# Altium integrated library Lattice Semiconductor ispMACH 4000Z.IntLib: 102 symbols (part 1 of 11)
Pins are listed as number, name and electrical type; pins without a type are passive.

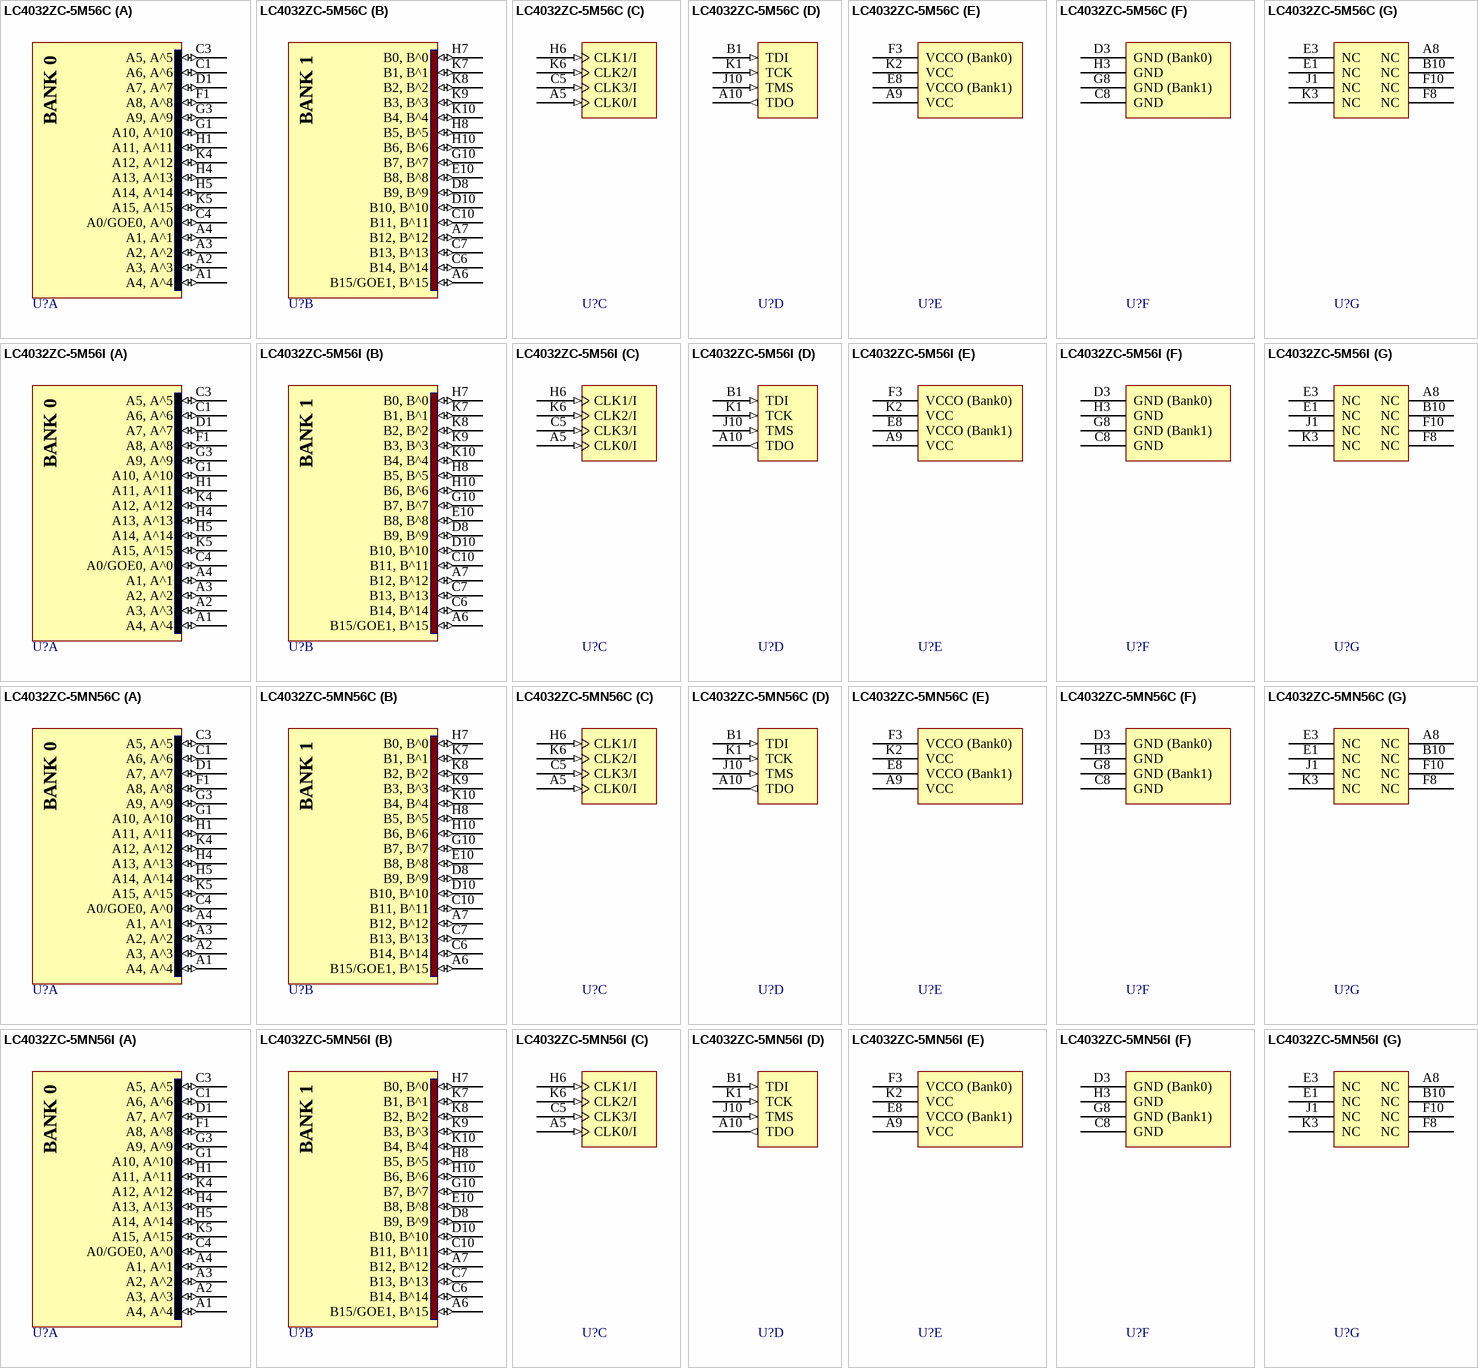
[diagram p0: symbols LC4032ZC-5M56C to LC4032ZC-5MN56I]

## LC4032ZC-5M56C
designator U?
ispMACH 4032 SuperFAST High Density PLD, 1.8 V, 32 User I/Os, 56-Ball caBGA, 5.0 ns, Commercial Grade; Note: For device migration considerations, NC pins K3, J1, F10, F8, E3, E1, B10, A8 are input signal pins in ispMACH 4064Z devices.; DatasheetVersion: ver22.3, Mar-2007; PackageVersion: ver01.2 Feb-2007; PackageReference: csBGA56; PackageDescription: 56-Ball Chip Scale Ball Grid Array (csBGA56); ComponentLink1Description: Manufacturer URL; ComponentLink1URL: http://www.latticesemi.com/; ComponentLink2Description: Datasheet; ComponentLink2URL: http://www.latticesemi.com/dynamic/view_document.cfm?document_id=3646
footprint csBGA56 (BGA, 56-Leads, Body 6x6mm, Pitch 0.5mm)
part A pins: A1 A4, A^4 (io) "General purpose I/O.", A2 A3, A^3 (io) "General purpose I/O.", A3 A2, A^2 (io) "General purpose I/O.", A4 A1, A^1 (io) "General purpose I/O.", C1 A6, A^6 (io) "General purpose I/O.", C3 A5, A^5 (io) "General purpose I/O.", C4 A0/GOE0, A^0 (io) "Either Global Output Enable Input or general I/O.", D1 A7, A^7 (io) "General purpose I/O.", F1 A8, A^8 (io) "General purpose I/O.", G1 A10, A^10 (io) "General purpose I/O.", G3 A9, A^9 (io) "General purpose I/O.", H1 A11, A^11 (io) "General purpose I/O.", H4 A13, A^13 (io) "General purpose I/O.", H5 A14, A^14 (io) "General purpose I/O.", K4 A12, A^12 (io) "General purpose I/O.", K5 A15, A^15 (io) "General purpose I/O."
part B pins: A6 B15/GOE1, B^15 (io) "Either Global Output Enable Input or general I/O.", A7 B12, B^12 (io) "General purpose I/O.", C6 B14, B^14 (io) "General purpose I/O.", C7 B13, B^13 (io) "General purpose I/O.", C10 B11, B^11 (io) "General purpose I/O.", D8 B9, B^9 (io) "General purpose I/O.", D10 B10, B^10 (io) "General purpose I/O.", E10 B8, B^8 (io) "General purpose I/O.", G10 B7, B^7 (io) "General purpose I/O.", H7 B0, B^0 (io) "General purpose I/O.", H8 B5, B^5 (io) "General purpose I/O.", H10 B6, B^6 (io) "General purpose I/O.", K7 B1, B^1 (io) "General purpose I/O.", K8 B2, B^2 (io) "General purpose I/O.", K9 B3, B^3 (io) "General purpose I/O.", K10 B4, B^4 (io) "General purpose I/O."
part C pins: A5 CLK0/I (in) "Either CLK input or input.", C5 CLK3/I (in) "Either CLK input or input.", H6 CLK1/I (in) "Either CLK input or input.", K6 CLK2/I (in) "Either CLK input or input."
part D pins: A10 TDO (out) "Test Data Output. Shifts data out of device using 1149.1.", B1 TDI (in) "Test Data Input. Loads data into device using 1149.1 state machine.", J10 TMS (in) "Test Mode Select Input to control 1149.1 state machine.", K1 TCK (in) "Test Clock Input for 1149.1 state machine."
part E pins: A9 VCC (power) "Power supply for logic core and JTAG port.", E8 VCCO (Bank1) (power) "Power supply pin for I/O bank.", F3 VCCO (Bank0) (power) "Power supply pin for I/O bank.", K2 VCC (power) "Power supply for logic core and JTAG port."
part F pins: C8 GND (power) "Ground", D3 GND (Bank0) (power) "I/O Ground", G8 GND (Bank1) (power) "I/O Ground", H3 GND (power) "Ground"
part G pins: A8 NC "Not Connected.", B10 NC "Not Connected.", E1 NC "Not Connected.", E3 NC "Not Connected.", F8 NC "Not Connected.", F10 NC "Not Connected.", J1 NC "Not Connected.", K3 NC "Not Connected."
part A text: BANK 0
part B text: BANK 1

## LC4032ZC-5M56I
designator U?
ispMACH 4032 SuperFAST High Density PLD, 1.8 V, 32 User I/Os, 56-Ball caBGA, 5.0 ns, Industrial Grade; Note: For device migration considerations, NC pins K3, J1, F10, F8, E3, E1, B10, A8 are input signal pins in ispMACH 4064Z devices.; DatasheetVersion: ver22.3, Mar-2007; PackageVersion: ver01.2 Feb-2007; PackageReference: csBGA56; PackageDescription: 56-Ball Chip Scale Ball Grid Array (csBGA56); ComponentLink1Description: Manufacturer URL; ComponentLink1URL: http://www.latticesemi.com/; ComponentLink2Description: Datasheet; ComponentLink2URL: http://www.latticesemi.com/dynamic/view_document.cfm?document_id=3646
footprint csBGA56 (BGA, 56-Leads, Body 6x6mm, Pitch 0.5mm)
part A pins: A1 A4, A^4 (io) "General purpose I/O.", A2 A3, A^3 (io) "General purpose I/O.", A3 A2, A^2 (io) "General purpose I/O.", A4 A1, A^1 (io) "General purpose I/O.", C1 A6, A^6 (io) "General purpose I/O.", C3 A5, A^5 (io) "General purpose I/O.", C4 A0/GOE0, A^0 (io) "Either Global Output Enable Input or general I/O.", D1 A7, A^7 (io) "General purpose I/O.", F1 A8, A^8 (io) "General purpose I/O.", G1 A10, A^10 (io) "General purpose I/O.", G3 A9, A^9 (io) "General purpose I/O.", H1 A11, A^11 (io) "General purpose I/O.", H4 A13, A^13 (io) "General purpose I/O.", H5 A14, A^14 (io) "General purpose I/O.", K4 A12, A^12 (io) "General purpose I/O.", K5 A15, A^15 (io) "General purpose I/O."
part B pins: A6 B15/GOE1, B^15 (io) "Either Global Output Enable Input or general I/O.", A7 B12, B^12 (io) "General purpose I/O.", C6 B14, B^14 (io) "General purpose I/O.", C7 B13, B^13 (io) "General purpose I/O.", C10 B11, B^11 (io) "General purpose I/O.", D8 B9, B^9 (io) "General purpose I/O.", D10 B10, B^10 (io) "General purpose I/O.", E10 B8, B^8 (io) "General purpose I/O.", G10 B7, B^7 (io) "General purpose I/O.", H7 B0, B^0 (io) "General purpose I/O.", H8 B5, B^5 (io) "General purpose I/O.", H10 B6, B^6 (io) "General purpose I/O.", K7 B1, B^1 (io) "General purpose I/O.", K8 B2, B^2 (io) "General purpose I/O.", K9 B3, B^3 (io) "General purpose I/O.", K10 B4, B^4 (io) "General purpose I/O."
part C pins: A5 CLK0/I (in) "Either CLK input or input.", C5 CLK3/I (in) "Either CLK input or input.", H6 CLK1/I (in) "Either CLK input or input.", K6 CLK2/I (in) "Either CLK input or input."
part D pins: A10 TDO (out) "Test Data Output. Shifts data out of device using 1149.1.", B1 TDI (in) "Test Data Input. Loads data into device using 1149.1 state machine.", J10 TMS (in) "Test Mode Select Input to control 1149.1 state machine.", K1 TCK (in) "Test Clock Input for 1149.1 state machine."
part E pins: A9 VCC (power) "Power supply for logic core and JTAG port.", E8 VCCO (Bank1) (power) "Power supply pin for I/O bank.", F3 VCCO (Bank0) (power) "Power supply pin for I/O bank.", K2 VCC (power) "Power supply for logic core and JTAG port."
part F pins: C8 GND (power) "Ground", D3 GND (Bank0) (power) "I/O Ground", G8 GND (Bank1) (power) "I/O Ground", H3 GND (power) "Ground"
part G pins: A8 NC "Not Connected.", B10 NC "Not Connected.", E1 NC "Not Connected.", E3 NC "Not Connected.", F8 NC "Not Connected.", F10 NC "Not Connected.", J1 NC "Not Connected.", K3 NC "Not Connected."
part A text: BANK 0
part B text: BANK 1

## LC4032ZC-5MN56C
designator U?
ispMACH 4032 SuperFAST High Density PLD, 1.8 V, 32 User I/Os, 56-Ball caBGA, 5.0 ns, Commercial Grade, Pb-Free; Note: For device migration considerations, NC pins K3, J1, F10, F8, E3, E1, B10, A8 are input signal pins in ispMACH 4064Z devices.; DatasheetVersion: ver22.3, Mar-2007; PackageVersion: ver01.2 Feb-2007; PackageReference: csBGA56; PackageDescription: 56-Ball Chip Scale Ball Grid Array (csBGA56); ComponentLink1Description: Manufacturer URL; ComponentLink1URL: http://www.latticesemi.com/; ComponentLink2Description: Datasheet; ComponentLink2URL: http://www.latticesemi.com/dynamic/view_document.cfm?document_id=3646
footprint csBGA56 (BGA, 56-Leads, Body 6x6mm, Pitch 0.5mm)
part A pins: A1 A4, A^4 (io) "General purpose I/O.", A2 A3, A^3 (io) "General purpose I/O.", A3 A2, A^2 (io) "General purpose I/O.", A4 A1, A^1 (io) "General purpose I/O.", C1 A6, A^6 (io) "General purpose I/O.", C3 A5, A^5 (io) "General purpose I/O.", C4 A0/GOE0, A^0 (io) "Either Global Output Enable Input or general I/O.", D1 A7, A^7 (io) "General purpose I/O.", F1 A8, A^8 (io) "General purpose I/O.", G1 A10, A^10 (io) "General purpose I/O.", G3 A9, A^9 (io) "General purpose I/O.", H1 A11, A^11 (io) "General purpose I/O.", H4 A13, A^13 (io) "General purpose I/O.", H5 A14, A^14 (io) "General purpose I/O.", K4 A12, A^12 (io) "General purpose I/O.", K5 A15, A^15 (io) "General purpose I/O."
part B pins: A6 B15/GOE1, B^15 (io) "Either Global Output Enable Input or general I/O.", A7 B12, B^12 (io) "General purpose I/O.", C6 B14, B^14 (io) "General purpose I/O.", C7 B13, B^13 (io) "General purpose I/O.", C10 B11, B^11 (io) "General purpose I/O.", D8 B9, B^9 (io) "General purpose I/O.", D10 B10, B^10 (io) "General purpose I/O.", E10 B8, B^8 (io) "General purpose I/O.", G10 B7, B^7 (io) "General purpose I/O.", H7 B0, B^0 (io) "General purpose I/O.", H8 B5, B^5 (io) "General purpose I/O.", H10 B6, B^6 (io) "General purpose I/O.", K7 B1, B^1 (io) "General purpose I/O.", K8 B2, B^2 (io) "General purpose I/O.", K9 B3, B^3 (io) "General purpose I/O.", K10 B4, B^4 (io) "General purpose I/O."
part C pins: A5 CLK0/I (in) "Either CLK input or input.", C5 CLK3/I (in) "Either CLK input or input.", H6 CLK1/I (in) "Either CLK input or input.", K6 CLK2/I (in) "Either CLK input or input."
part D pins: A10 TDO (out) "Test Data Output. Shifts data out of device using 1149.1.", B1 TDI (in) "Test Data Input. Loads data into device using 1149.1 state machine.", J10 TMS (in) "Test Mode Select Input to control 1149.1 state machine.", K1 TCK (in) "Test Clock Input for 1149.1 state machine."
part E pins: A9 VCC (power) "Power supply for logic core and JTAG port.", E8 VCCO (Bank1) (power) "Power supply pin for I/O bank.", F3 VCCO (Bank0) (power) "Power supply pin for I/O bank.", K2 VCC (power) "Power supply for logic core and JTAG port."
part F pins: C8 GND (power) "Ground", D3 GND (Bank0) (power) "I/O Ground", G8 GND (Bank1) (power) "I/O Ground", H3 GND (power) "Ground"
part G pins: A8 NC "Not Connected.", B10 NC "Not Connected.", E1 NC "Not Connected.", E3 NC "Not Connected.", F8 NC "Not Connected.", F10 NC "Not Connected.", J1 NC "Not Connected.", K3 NC "Not Connected."
part A text: BANK 0
part B text: BANK 1

## LC4032ZC-5MN56I
designator U?
ispMACH 4032 SuperFAST High Density PLD, 1.8 V, 32 User I/Os, 56-Ball caBGA, 5.0 ns, Industrial Grade, Pb-Free; Note: For device migration considerations, NC pins K3, J1, F10, F8, E3, E1, B10, A8 are input signal pins in ispMACH 4064Z devices.; DatasheetVersion: ver22.3, Mar-2007; PackageVersion: ver01.2 Feb-2007; PackageReference: csBGA56; PackageDescription: 56-Ball Chip Scale Ball Grid Array (csBGA56); ComponentLink1Description: Manufacturer URL; ComponentLink1URL: http://www.latticesemi.com/; ComponentLink2Description: Datasheet; ComponentLink2URL: http://www.latticesemi.com/dynamic/view_document.cfm?document_id=3646
footprint csBGA56 (BGA, 56-Leads, Body 6x6mm, Pitch 0.5mm)
part A pins: A1 A4, A^4 (io) "General purpose I/O.", A2 A3, A^3 (io) "General purpose I/O.", A3 A2, A^2 (io) "General purpose I/O.", A4 A1, A^1 (io) "General purpose I/O.", C1 A6, A^6 (io) "General purpose I/O.", C3 A5, A^5 (io) "General purpose I/O.", C4 A0/GOE0, A^0 (io) "Either Global Output Enable Input or general I/O.", D1 A7, A^7 (io) "General purpose I/O.", F1 A8, A^8 (io) "General purpose I/O.", G1 A10, A^10 (io) "General purpose I/O.", G3 A9, A^9 (io) "General purpose I/O.", H1 A11, A^11 (io) "General purpose I/O.", H4 A13, A^13 (io) "General purpose I/O.", H5 A14, A^14 (io) "General purpose I/O.", K4 A12, A^12 (io) "General purpose I/O.", K5 A15, A^15 (io) "General purpose I/O."
part B pins: A6 B15/GOE1, B^15 (io) "Either Global Output Enable Input or general I/O.", A7 B12, B^12 (io) "General purpose I/O.", C6 B14, B^14 (io) "General purpose I/O.", C7 B13, B^13 (io) "General purpose I/O.", C10 B11, B^11 (io) "General purpose I/O.", D8 B9, B^9 (io) "General purpose I/O.", D10 B10, B^10 (io) "General purpose I/O.", E10 B8, B^8 (io) "General purpose I/O.", G10 B7, B^7 (io) "General purpose I/O.", H7 B0, B^0 (io) "General purpose I/O.", H8 B5, B^5 (io) "General purpose I/O.", H10 B6, B^6 (io) "General purpose I/O.", K7 B1, B^1 (io) "General purpose I/O.", K8 B2, B^2 (io) "General purpose I/O.", K9 B3, B^3 (io) "General purpose I/O.", K10 B4, B^4 (io) "General purpose I/O."
part C pins: A5 CLK0/I (in) "Either CLK input or input.", C5 CLK3/I (in) "Either CLK input or input.", H6 CLK1/I (in) "Either CLK input or input.", K6 CLK2/I (in) "Either CLK input or input."
part D pins: A10 TDO (out) "Test Data Output. Shifts data out of device using 1149.1.", B1 TDI (in) "Test Data Input. Loads data into device using 1149.1 state machine.", J10 TMS (in) "Test Mode Select Input to control 1149.1 state machine.", K1 TCK (in) "Test Clock Input for 1149.1 state machine."
part E pins: A9 VCC (power) "Power supply for logic core and JTAG port.", E8 VCCO (Bank1) (power) "Power supply pin for I/O bank.", F3 VCCO (Bank0) (power) "Power supply pin for I/O bank.", K2 VCC (power) "Power supply for logic core and JTAG port."
part F pins: C8 GND (power) "Ground", D3 GND (Bank0) (power) "I/O Ground", G8 GND (Bank1) (power) "I/O Ground", H3 GND (power) "Ground"
part G pins: A8 NC "Not Connected.", B10 NC "Not Connected.", E1 NC "Not Connected.", E3 NC "Not Connected.", F8 NC "Not Connected.", F10 NC "Not Connected.", J1 NC "Not Connected.", K3 NC "Not Connected."
part A text: BANK 0
part B text: BANK 1

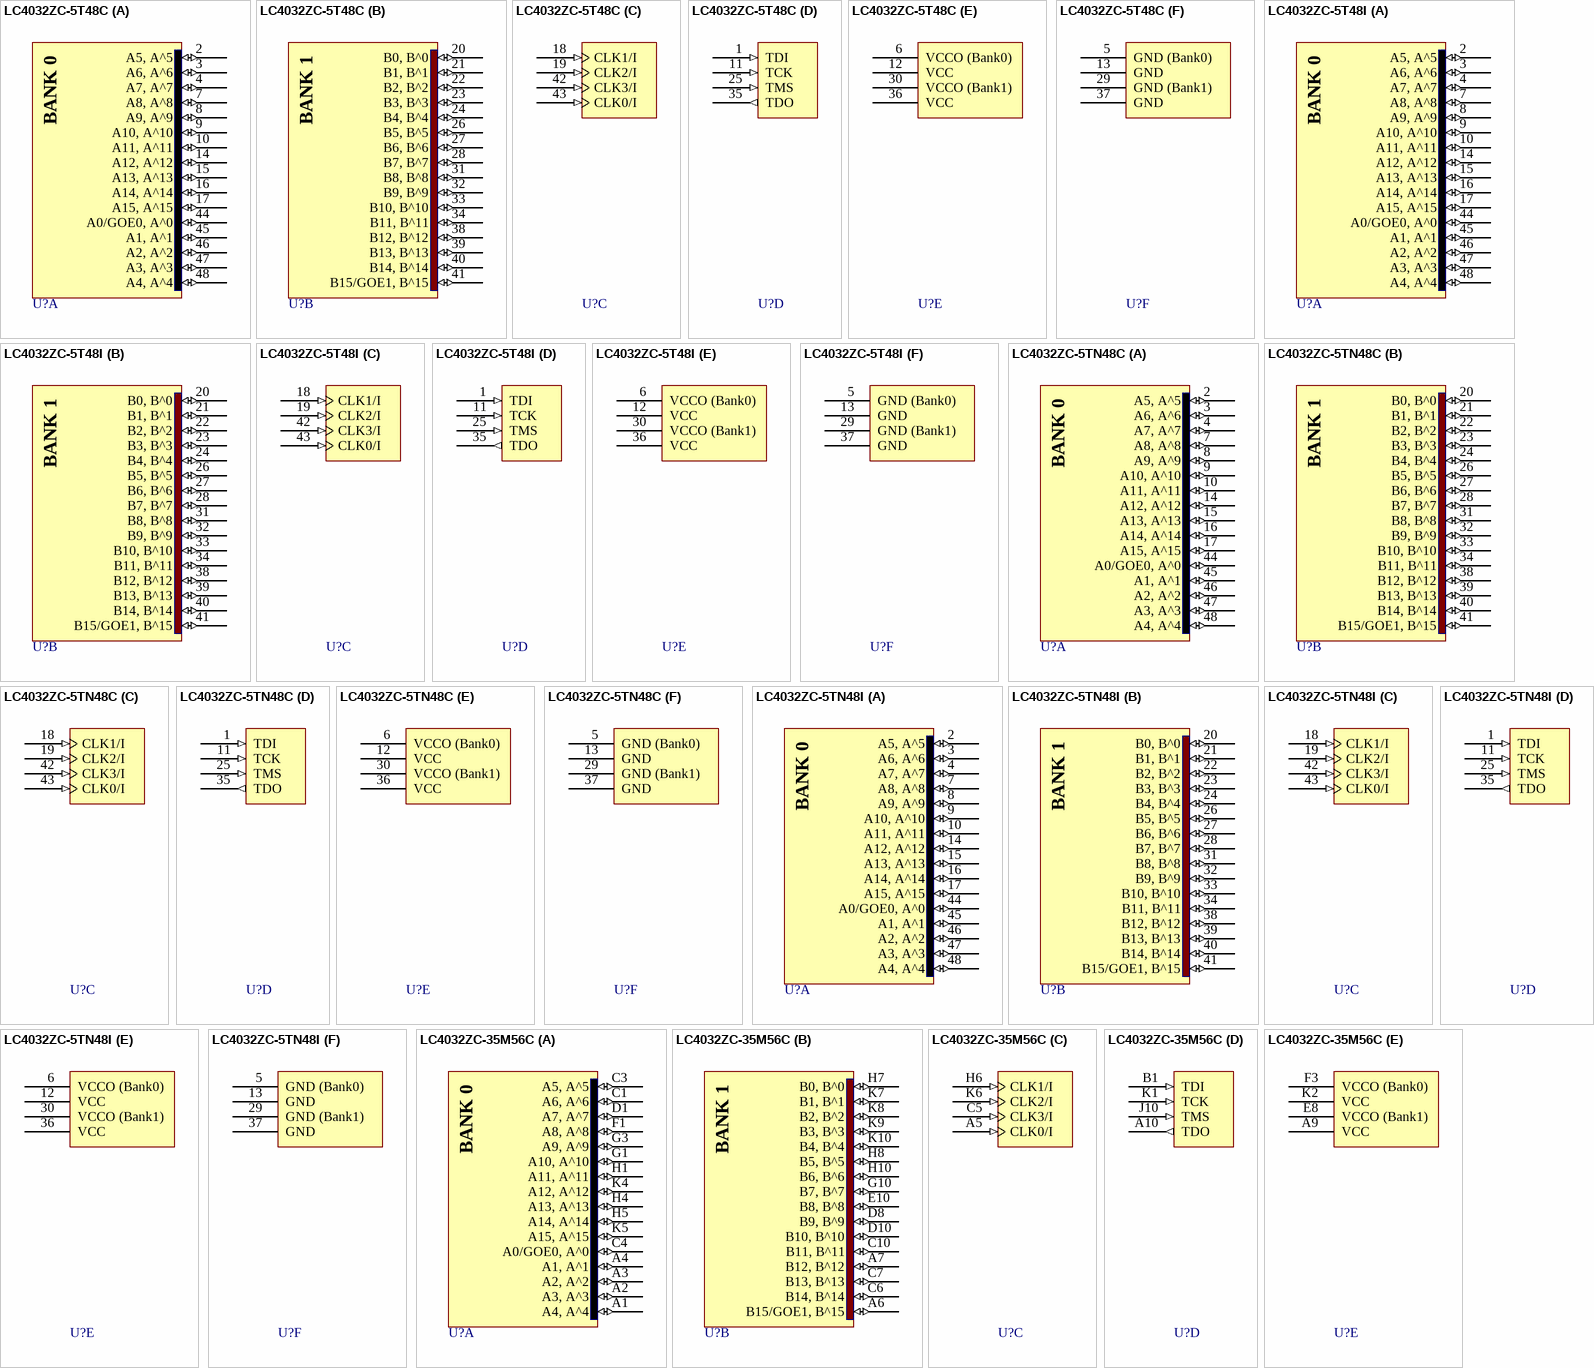
[diagram p1: symbols LC4032ZC-5T48C to LC4032ZC-35M56C]

## LC4032ZC-5T48C
designator U?
ispMACH 4032 SuperFAST High Density PLD, 1.8 V, 32 User I/Os, 48-Pin TQFP, 5.0 ns, Commercial Grade; DatasheetVersion: ver22.3, Mar-2007; PackageVersion: ver02.6, Nov-2010; PackageReference: TQFP48(1mm); PackageDescription: 48-Pin Thin Quad Flat Pack 1.0 mm Thick (TQFP48); ComponentLink1Description: Manufacturer URL; ComponentLink1URL: http://www.latticesemi.com/; ComponentLink2Description: Datasheet; ComponentLink2URL: http://www.latticesemi.com/dynamic/view_document.cfm?document_id=3646
footprint TQFP48(1mm)_N (Thin QFP, 48-Leads, Body 7x7mm, Pitch 0.5mm, IPC Medium Density)
footprint TQFP48(1mm)_L (Thin QFP, 48-Leads, Body 7x7mm, Pitch 0.5mm, IPC High Density)
footprint TQFP48(1mm)_M (Thin QFP, 48-Leads, Body 7x7mm, Pitch 0.5mm, IPC Low Density)
part A pins: 2 A5, A^5 (io) "General purpose I/O.", 3 A6, A^6 (io) "General purpose I/O.", 4 A7, A^7 (io) "General purpose I/O.", 7 A8, A^8 (io) "General purpose I/O.", 8 A9, A^9 (io) "General purpose I/O.", 9 A10, A^10 (io) "General purpose I/O.", 10 A11, A^11 (io) "General purpose I/O.", 14 A12, A^12 (io) "General purpose I/O.", 15 A13, A^13 (io) "General purpose I/O.", 16 A14, A^14 (io) "General purpose I/O.", 17 A15, A^15 (io) "General purpose I/O.", 44 A0/GOE0, A^0 (io) "Either Global Output Enable Input or general I/O.", 45 A1, A^1 (io) "General purpose I/O.", 46 A2, A^2 (io) "General purpose I/O.", 47 A3, A^3 (io) "General purpose I/O.", 48 A4, A^4 (io) "General purpose I/O."
part B pins: 20 B0, B^0 (io) "General purpose I/O.", 21 B1, B^1 (io) "General purpose I/O.", 22 B2, B^2 (io) "General purpose I/O.", 23 B3, B^3 (io) "General purpose I/O.", 24 B4, B^4 (io) "General purpose I/O.", 26 B5, B^5 (io) "General purpose I/O.", 27 B6, B^6 (io) "General purpose I/O.", 28 B7, B^7 (io) "General purpose I/O.", 31 B8, B^8 (io) "General purpose I/O.", 32 B9, B^9 (io) "General purpose I/O.", 33 B10, B^10 (io) "General purpose I/O.", 34 B11, B^11 (io) "General purpose I/O.", 38 B12, B^12 (io) "General purpose I/O.", 39 B13, B^13 (io) "General purpose I/O.", 40 B14, B^14 (io) "General purpose I/O.", 41 B15/GOE1, B^15 (io) "Either Global Output Enable Input or general I/O."
part C pins: 18 CLK1/I (in) "Either CLK input or input.", 19 CLK2/I (in) "Either CLK input or input.", 42 CLK3/I (in) "Either CLK input or input.", 43 CLK0/I (in) "Either CLK input or input."
part D pins: 1 TDI (in) "Test Data Input. Loads data into device using 1149.1 state machine.", 11 TCK (in) "Test Clock Input for 1149.1 state machine.", 25 TMS (in) "Test Mode Select Input to control 1149.1 state machine.", 35 TDO (out) "Test Data Output. Shifts data out of device using 1149.1."
part E pins: 6 VCCO (Bank0) (power) "Power supply pin for I/O bank.", 12 VCC (power) "Power supply for logic core and JTAG port.", 30 VCCO (Bank1) (power) "Power supply pin for I/O bank.", 36 VCC (power) "Power supply for logic core and JTAG port."
part F pins: 5 GND (Bank0) (power) "I/O Ground", 13 GND (power) "Ground", 29 GND (Bank1) (power) "I/O Ground", 37 GND (power) "Ground"
part A text: BANK 0
part B text: BANK 1

## LC4032ZC-5T48I
designator U?
ispMACH 4032 SuperFAST High Density PLD, 1.8 V, 32 User I/Os, 48-Ball TQFP, 5.0 ns, Industrial Grade; DatasheetVersion: ver22.3, Mar-2007; PackageVersion: ver02.6, Nov-2010; PackageReference: TQFP48(1mm); PackageDescription: 48-Pin Thin Quad Flat Pack 1.0 mm Thick (TQFP48); ComponentLink1Description: Manufacturer URL; ComponentLink1URL: http://www.latticesemi.com/; ComponentLink2Description: Datasheet; ComponentLink2URL: http://www.latticesemi.com/dynamic/view_document.cfm?document_id=3646
footprint TQFP48(1mm)_N (Thin QFP, 48-Leads, Body 7x7mm, Pitch 0.5mm, IPC Medium Density)
footprint TQFP48(1mm)_L (Thin QFP, 48-Leads, Body 7x7mm, Pitch 0.5mm, IPC High Density)
footprint TQFP48(1mm)_M (Thin QFP, 48-Leads, Body 7x7mm, Pitch 0.5mm, IPC Low Density)
part A pins: 2 A5, A^5 (io) "General purpose I/O.", 3 A6, A^6 (io) "General purpose I/O.", 4 A7, A^7 (io) "General purpose I/O.", 7 A8, A^8 (io) "General purpose I/O.", 8 A9, A^9 (io) "General purpose I/O.", 9 A10, A^10 (io) "General purpose I/O.", 10 A11, A^11 (io) "General purpose I/O.", 14 A12, A^12 (io) "General purpose I/O.", 15 A13, A^13 (io) "General purpose I/O.", 16 A14, A^14 (io) "General purpose I/O.", 17 A15, A^15 (io) "General purpose I/O.", 44 A0/GOE0, A^0 (io) "Either Global Output Enable Input or general I/O.", 45 A1, A^1 (io) "General purpose I/O.", 46 A2, A^2 (io) "General purpose I/O.", 47 A3, A^3 (io) "General purpose I/O.", 48 A4, A^4 (io) "General purpose I/O."
part B pins: 20 B0, B^0 (io) "General purpose I/O.", 21 B1, B^1 (io) "General purpose I/O.", 22 B2, B^2 (io) "General purpose I/O.", 23 B3, B^3 (io) "General purpose I/O.", 24 B4, B^4 (io) "General purpose I/O.", 26 B5, B^5 (io) "General purpose I/O.", 27 B6, B^6 (io) "General purpose I/O.", 28 B7, B^7 (io) "General purpose I/O.", 31 B8, B^8 (io) "General purpose I/O.", 32 B9, B^9 (io) "General purpose I/O.", 33 B10, B^10 (io) "General purpose I/O.", 34 B11, B^11 (io) "General purpose I/O.", 38 B12, B^12 (io) "General purpose I/O.", 39 B13, B^13 (io) "General purpose I/O.", 40 B14, B^14 (io) "General purpose I/O.", 41 B15/GOE1, B^15 (io) "Either Global Output Enable Input or general I/O."
part C pins: 18 CLK1/I (in) "Either CLK input or input.", 19 CLK2/I (in) "Either CLK input or input.", 42 CLK3/I (in) "Either CLK input or input.", 43 CLK0/I (in) "Either CLK input or input."
part D pins: 1 TDI (in) "Test Data Input. Loads data into device using 1149.1 state machine.", 11 TCK (in) "Test Clock Input for 1149.1 state machine.", 25 TMS (in) "Test Mode Select Input to control 1149.1 state machine.", 35 TDO (out) "Test Data Output. Shifts data out of device using 1149.1."
part E pins: 6 VCCO (Bank0) (power) "Power supply pin for I/O bank.", 12 VCC (power) "Power supply for logic core and JTAG port.", 30 VCCO (Bank1) (power) "Power supply pin for I/O bank.", 36 VCC (power) "Power supply for logic core and JTAG port."
part F pins: 5 GND (Bank0) (power) "I/O Ground", 13 GND (power) "Ground", 29 GND (Bank1) (power) "I/O Ground", 37 GND (power) "Ground"
part A text: BANK 0
part B text: BANK 1

## LC4032ZC-5TN48C
designator U?
ispMACH 4032 SuperFAST High Density PLD, 1.8 V, 32 User I/Os, 48-Pin TQFP, 5.0 ns, Commercial Grade, Pb-Free; DatasheetVersion: ver22.3, Mar-2007; PackageVersion: ver02.6, Nov-2010; PackageReference: TQFP48(1mm); PackageDescription: 48-Pin Thin Quad Flat Pack 1.0 mm Thick (TQFP48); ComponentLink1Description: Manufacturer URL; ComponentLink1URL: http://www.latticesemi.com/; ComponentLink2Description: Datasheet; ComponentLink2URL: http://www.latticesemi.com/dynamic/view_document.cfm?document_id=3646
footprint TQFP48(1mm)_N (Thin QFP, 48-Leads, Body 7x7mm, Pitch 0.5mm, IPC Medium Density)
footprint TQFP48(1mm)_L (Thin QFP, 48-Leads, Body 7x7mm, Pitch 0.5mm, IPC High Density)
footprint TQFP48(1mm)_M (Thin QFP, 48-Leads, Body 7x7mm, Pitch 0.5mm, IPC Low Density)
part A pins: 2 A5, A^5 (io) "General purpose I/O.", 3 A6, A^6 (io) "General purpose I/O.", 4 A7, A^7 (io) "General purpose I/O.", 7 A8, A^8 (io) "General purpose I/O.", 8 A9, A^9 (io) "General purpose I/O.", 9 A10, A^10 (io) "General purpose I/O.", 10 A11, A^11 (io) "General purpose I/O.", 14 A12, A^12 (io) "General purpose I/O.", 15 A13, A^13 (io) "General purpose I/O.", 16 A14, A^14 (io) "General purpose I/O.", 17 A15, A^15 (io) "General purpose I/O.", 44 A0/GOE0, A^0 (io) "Either Global Output Enable Input or general I/O.", 45 A1, A^1 (io) "General purpose I/O.", 46 A2, A^2 (io) "General purpose I/O.", 47 A3, A^3 (io) "General purpose I/O.", 48 A4, A^4 (io) "General purpose I/O."
part B pins: 20 B0, B^0 (io) "General purpose I/O.", 21 B1, B^1 (io) "General purpose I/O.", 22 B2, B^2 (io) "General purpose I/O.", 23 B3, B^3 (io) "General purpose I/O.", 24 B4, B^4 (io) "General purpose I/O.", 26 B5, B^5 (io) "General purpose I/O.", 27 B6, B^6 (io) "General purpose I/O.", 28 B7, B^7 (io) "General purpose I/O.", 31 B8, B^8 (io) "General purpose I/O.", 32 B9, B^9 (io) "General purpose I/O.", 33 B10, B^10 (io) "General purpose I/O.", 34 B11, B^11 (io) "General purpose I/O.", 38 B12, B^12 (io) "General purpose I/O.", 39 B13, B^13 (io) "General purpose I/O.", 40 B14, B^14 (io) "General purpose I/O.", 41 B15/GOE1, B^15 (io) "Either Global Output Enable Input or general I/O."
part C pins: 18 CLK1/I (in) "Either CLK input or input.", 19 CLK2/I (in) "Either CLK input or input.", 42 CLK3/I (in) "Either CLK input or input.", 43 CLK0/I (in) "Either CLK input or input."
part D pins: 1 TDI (in) "Test Data Input. Loads data into device using 1149.1 state machine.", 11 TCK (in) "Test Clock Input for 1149.1 state machine.", 25 TMS (in) "Test Mode Select Input to control 1149.1 state machine.", 35 TDO (out) "Test Data Output. Shifts data out of device using 1149.1."
part E pins: 6 VCCO (Bank0) (power) "Power supply pin for I/O bank.", 12 VCC (power) "Power supply for logic core and JTAG port.", 30 VCCO (Bank1) (power) "Power supply pin for I/O bank.", 36 VCC (power) "Power supply for logic core and JTAG port."
part F pins: 5 GND (Bank0) (power) "I/O Ground", 13 GND (power) "Ground", 29 GND (Bank1) (power) "I/O Ground", 37 GND (power) "Ground"
part A text: BANK 0
part B text: BANK 1

## LC4032ZC-5TN48I
designator U?
ispMACH 4032 SuperFAST High Density PLD, 1.8 V, 32 User I/Os, 48-Ball TQFP, 5.0 ns, Industrial Grade, Pb-Free; DatasheetVersion: ver22.3, Mar-2007; PackageVersion: ver02.6, Nov-2010; PackageReference: TQFP48(1mm); PackageDescription: 48-Pin Thin Quad Flat Pack 1.0 mm Thick (TQFP48); ComponentLink1Description: Manufacturer URL; ComponentLink1URL: http://www.latticesemi.com/; ComponentLink2Description: Datasheet; ComponentLink2URL: http://www.latticesemi.com/dynamic/view_document.cfm?document_id=3646
footprint TQFP48(1mm)_N (Thin QFP, 48-Leads, Body 7x7mm, Pitch 0.5mm, IPC Medium Density)
footprint TQFP48(1mm)_L (Thin QFP, 48-Leads, Body 7x7mm, Pitch 0.5mm, IPC High Density)
footprint TQFP48(1mm)_M (Thin QFP, 48-Leads, Body 7x7mm, Pitch 0.5mm, IPC Low Density)
part A pins: 2 A5, A^5 (io) "General purpose I/O.", 3 A6, A^6 (io) "General purpose I/O.", 4 A7, A^7 (io) "General purpose I/O.", 7 A8, A^8 (io) "General purpose I/O.", 8 A9, A^9 (io) "General purpose I/O.", 9 A10, A^10 (io) "General purpose I/O.", 10 A11, A^11 (io) "General purpose I/O.", 14 A12, A^12 (io) "General purpose I/O.", 15 A13, A^13 (io) "General purpose I/O.", 16 A14, A^14 (io) "General purpose I/O.", 17 A15, A^15 (io) "General purpose I/O.", 44 A0/GOE0, A^0 (io) "Either Global Output Enable Input or general I/O.", 45 A1, A^1 (io) "General purpose I/O.", 46 A2, A^2 (io) "General purpose I/O.", 47 A3, A^3 (io) "General purpose I/O.", 48 A4, A^4 (io) "General purpose I/O."
part B pins: 20 B0, B^0 (io) "General purpose I/O.", 21 B1, B^1 (io) "General purpose I/O.", 22 B2, B^2 (io) "General purpose I/O.", 23 B3, B^3 (io) "General purpose I/O.", 24 B4, B^4 (io) "General purpose I/O.", 26 B5, B^5 (io) "General purpose I/O.", 27 B6, B^6 (io) "General purpose I/O.", 28 B7, B^7 (io) "General purpose I/O.", 31 B8, B^8 (io) "General purpose I/O.", 32 B9, B^9 (io) "General purpose I/O.", 33 B10, B^10 (io) "General purpose I/O.", 34 B11, B^11 (io) "General purpose I/O.", 38 B12, B^12 (io) "General purpose I/O.", 39 B13, B^13 (io) "General purpose I/O.", 40 B14, B^14 (io) "General purpose I/O.", 41 B15/GOE1, B^15 (io) "Either Global Output Enable Input or general I/O."
part C pins: 18 CLK1/I (in) "Either CLK input or input.", 19 CLK2/I (in) "Either CLK input or input.", 42 CLK3/I (in) "Either CLK input or input.", 43 CLK0/I (in) "Either CLK input or input."
part D pins: 1 TDI (in) "Test Data Input. Loads data into device using 1149.1 state machine.", 11 TCK (in) "Test Clock Input for 1149.1 state machine.", 25 TMS (in) "Test Mode Select Input to control 1149.1 state machine.", 35 TDO (out) "Test Data Output. Shifts data out of device using 1149.1."
part E pins: 6 VCCO (Bank0) (power) "Power supply pin for I/O bank.", 12 VCC (power) "Power supply for logic core and JTAG port.", 30 VCCO (Bank1) (power) "Power supply pin for I/O bank.", 36 VCC (power) "Power supply for logic core and JTAG port."
part F pins: 5 GND (Bank0) (power) "I/O Ground", 13 GND (power) "Ground", 29 GND (Bank1) (power) "I/O Ground", 37 GND (power) "Ground"
part A text: BANK 0
part B text: BANK 1

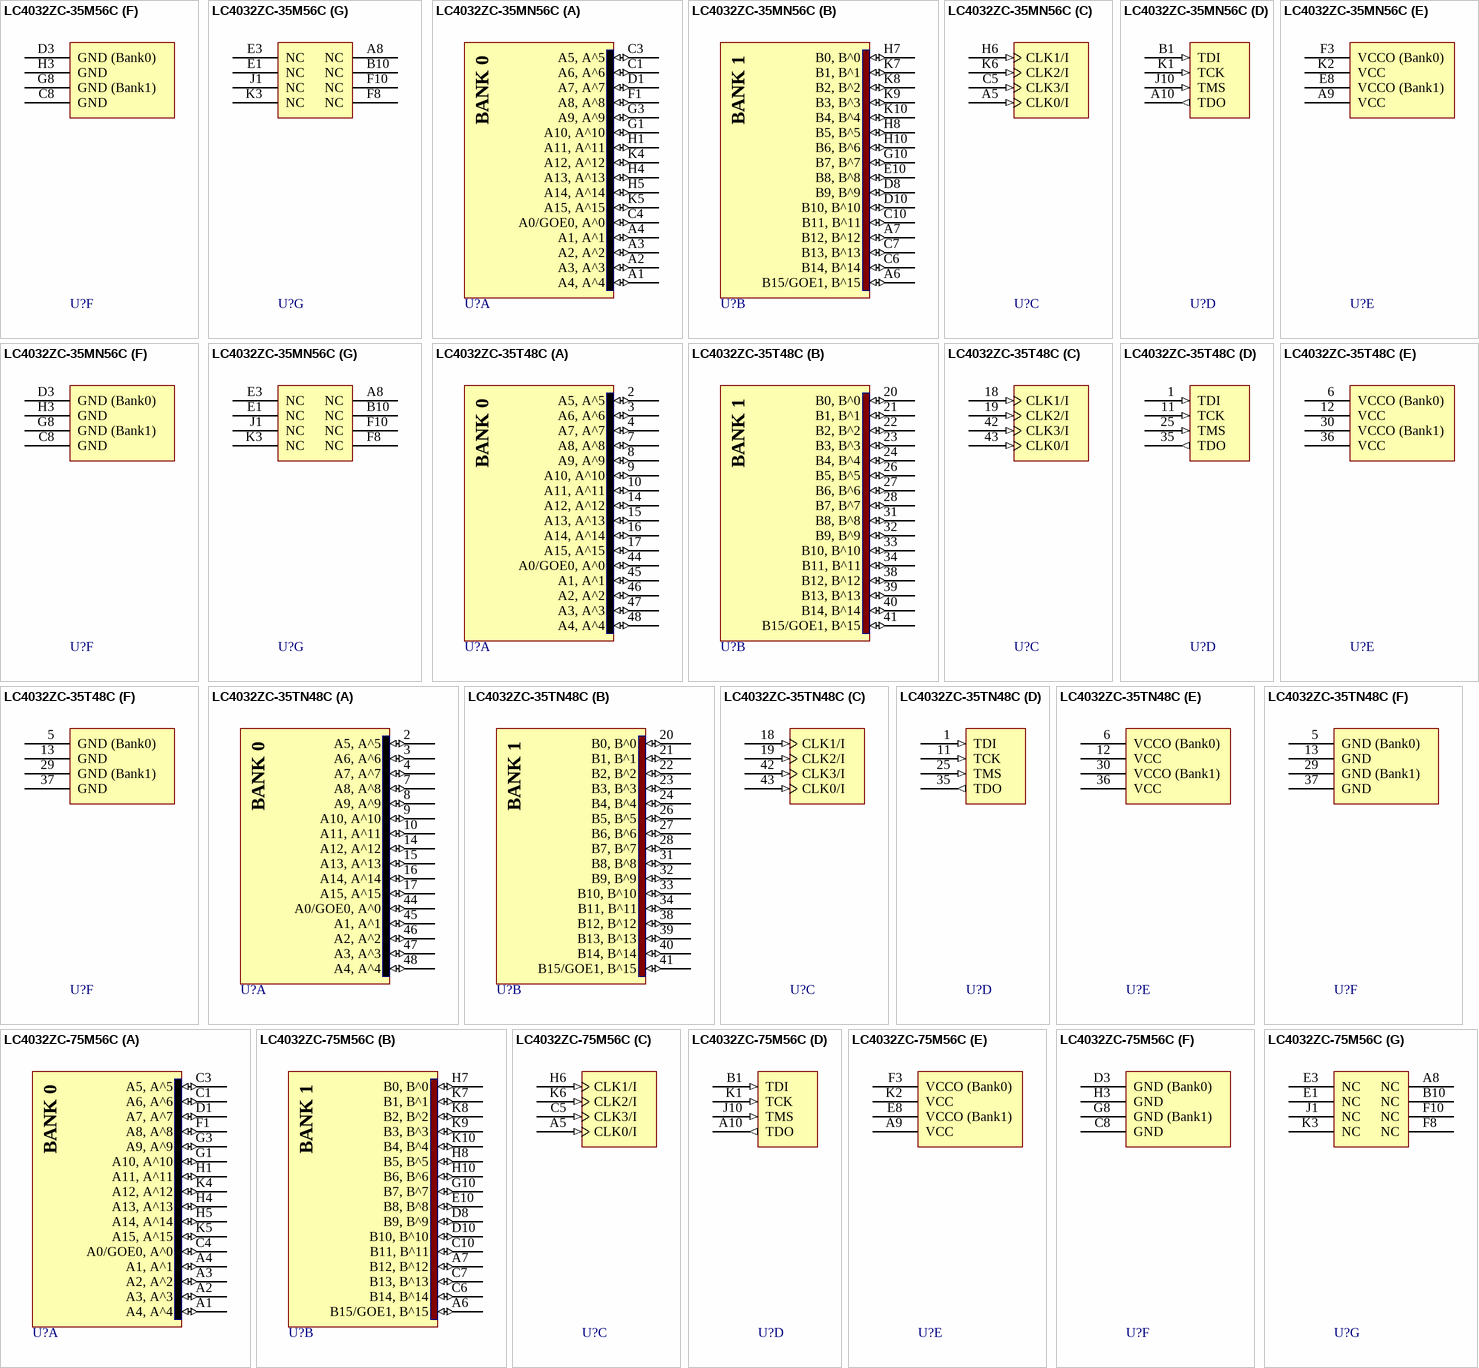
[diagram p2: symbols LC4032ZC-35M56C to LC4032ZC-75M56C]

## LC4032ZC-35M56C
designator U?
ispMACH 4032 SuperFAST High Density PLD, 1.8 V, 32 User I/Os, 56-Ball caBGA, 3.5 ns, Commercial Grade; Note: For device migration considerations, NC pins K3, J1, F10, F8, E3, E1, B10, A8 are input signal pins in ispMACH 4064Z devices.; DatasheetVersion: ver22.3, Mar-2007; PackageVersion: ver01.2 Feb-2007; PackageReference: csBGA56; PackageDescription: 56-Ball Chip Scale Ball Grid Array (csBGA56); ComponentLink1Description: Manufacturer URL; ComponentLink1URL: http://www.latticesemi.com/; ComponentLink2Description: Datasheet; ComponentLink2URL: http://www.latticesemi.com/dynamic/view_document.cfm?document_id=3646
footprint csBGA56 (BGA, 56-Leads, Body 6x6mm, Pitch 0.5mm)
part A pins: A1 A4, A^4 (io) "General purpose I/O.", A2 A3, A^3 (io) "General purpose I/O.", A3 A2, A^2 (io) "General purpose I/O.", A4 A1, A^1 (io) "General purpose I/O.", C1 A6, A^6 (io) "General purpose I/O.", C3 A5, A^5 (io) "General purpose I/O.", C4 A0/GOE0, A^0 (io) "Either Global Output Enable Input or general I/O.", D1 A7, A^7 (io) "General purpose I/O.", F1 A8, A^8 (io) "General purpose I/O.", G1 A10, A^10 (io) "General purpose I/O.", G3 A9, A^9 (io) "General purpose I/O.", H1 A11, A^11 (io) "General purpose I/O.", H4 A13, A^13 (io) "General purpose I/O.", H5 A14, A^14 (io) "General purpose I/O.", K4 A12, A^12 (io) "General purpose I/O.", K5 A15, A^15 (io) "General purpose I/O."
part B pins: A6 B15/GOE1, B^15 (io) "Either Global Output Enable Input or general I/O.", A7 B12, B^12 (io) "General purpose I/O.", C6 B14, B^14 (io) "General purpose I/O.", C7 B13, B^13 (io) "General purpose I/O.", C10 B11, B^11 (io) "General purpose I/O.", D8 B9, B^9 (io) "General purpose I/O.", D10 B10, B^10 (io) "General purpose I/O.", E10 B8, B^8 (io) "General purpose I/O.", G10 B7, B^7 (io) "General purpose I/O.", H7 B0, B^0 (io) "General purpose I/O.", H8 B5, B^5 (io) "General purpose I/O.", H10 B6, B^6 (io) "General purpose I/O.", K7 B1, B^1 (io) "General purpose I/O.", K8 B2, B^2 (io) "General purpose I/O.", K9 B3, B^3 (io) "General purpose I/O.", K10 B4, B^4 (io) "General purpose I/O."
part C pins: A5 CLK0/I (in) "Either CLK input or input.", C5 CLK3/I (in) "Either CLK input or input.", H6 CLK1/I (in) "Either CLK input or input.", K6 CLK2/I (in) "Either CLK input or input."
part D pins: A10 TDO (out) "Test Data Output. Shifts data out of device using 1149.1.", B1 TDI (in) "Test Data Input. Loads data into device using 1149.1 state machine.", J10 TMS (in) "Test Mode Select Input to control 1149.1 state machine.", K1 TCK (in) "Test Clock Input for 1149.1 state machine."
part E pins: A9 VCC (power) "Power supply for logic core and JTAG port.", E8 VCCO (Bank1) (power) "Power supply pin for I/O bank.", F3 VCCO (Bank0) (power) "Power supply pin for I/O bank.", K2 VCC (power) "Power supply for logic core and JTAG port."
part F pins: C8 GND (power) "Ground", D3 GND (Bank0) (power) "I/O Ground", G8 GND (Bank1) (power) "I/O Ground", H3 GND (power) "Ground"
part G pins: A8 NC "Not Connected.", B10 NC "Not Connected.", E1 NC "Not Connected.", E3 NC "Not Connected.", F8 NC "Not Connected.", F10 NC "Not Connected.", J1 NC "Not Connected.", K3 NC "Not Connected."
part A text: BANK 0
part B text: BANK 1

## LC4032ZC-35MN56C
designator U?
ispMACH 4032 SuperFAST High Density PLD, 1.8 V, 32 User I/Os, 56-Ball caBGA, 3.5 ns, Commercial Grade, Pb-Free; Note: For device migration considerations, NC pins K3, J1, F10, F8, E3, E1, B10, A8 are input signal pins in ispMACH 4064Z devices.; DatasheetVersion: ver22.3, Mar-2007; PackageVersion: ver01.2 Feb-2007; PackageReference: csBGA56; PackageDescription: 56-Ball Chip Scale Ball Grid Array (csBGA56); ComponentLink1Description: Manufacturer URL; ComponentLink1URL: http://www.latticesemi.com/; ComponentLink2Description: Datasheet; ComponentLink2URL: http://www.latticesemi.com/dynamic/view_document.cfm?document_id=3646
footprint csBGA56 (BGA, 56-Leads, Body 6x6mm, Pitch 0.5mm)
part A pins: A1 A4, A^4 (io) "General purpose I/O.", A2 A3, A^3 (io) "General purpose I/O.", A3 A2, A^2 (io) "General purpose I/O.", A4 A1, A^1 (io) "General purpose I/O.", C1 A6, A^6 (io) "General purpose I/O.", C3 A5, A^5 (io) "General purpose I/O.", C4 A0/GOE0, A^0 (io) "Either Global Output Enable Input or general I/O.", D1 A7, A^7 (io) "General purpose I/O.", F1 A8, A^8 (io) "General purpose I/O.", G1 A10, A^10 (io) "General purpose I/O.", G3 A9, A^9 (io) "General purpose I/O.", H1 A11, A^11 (io) "General purpose I/O.", H4 A13, A^13 (io) "General purpose I/O.", H5 A14, A^14 (io) "General purpose I/O.", K4 A12, A^12 (io) "General purpose I/O.", K5 A15, A^15 (io) "General purpose I/O."
part B pins: A6 B15/GOE1, B^15 (io) "Either Global Output Enable Input or general I/O.", A7 B12, B^12 (io) "General purpose I/O.", C6 B14, B^14 (io) "General purpose I/O.", C7 B13, B^13 (io) "General purpose I/O.", C10 B11, B^11 (io) "General purpose I/O.", D8 B9, B^9 (io) "General purpose I/O.", D10 B10, B^10 (io) "General purpose I/O.", E10 B8, B^8 (io) "General purpose I/O.", G10 B7, B^7 (io) "General purpose I/O.", H7 B0, B^0 (io) "General purpose I/O.", H8 B5, B^5 (io) "General purpose I/O.", H10 B6, B^6 (io) "General purpose I/O.", K7 B1, B^1 (io) "General purpose I/O.", K8 B2, B^2 (io) "General purpose I/O.", K9 B3, B^3 (io) "General purpose I/O.", K10 B4, B^4 (io) "General purpose I/O."
part C pins: A5 CLK0/I (in) "Either CLK input or input.", C5 CLK3/I (in) "Either CLK input or input.", H6 CLK1/I (in) "Either CLK input or input.", K6 CLK2/I (in) "Either CLK input or input."
part D pins: A10 TDO (out) "Test Data Output. Shifts data out of device using 1149.1.", B1 TDI (in) "Test Data Input. Loads data into device using 1149.1 state machine.", J10 TMS (in) "Test Mode Select Input to control 1149.1 state machine.", K1 TCK (in) "Test Clock Input for 1149.1 state machine."
part E pins: A9 VCC (power) "Power supply for logic core and JTAG port.", E8 VCCO (Bank1) (power) "Power supply pin for I/O bank.", F3 VCCO (Bank0) (power) "Power supply pin for I/O bank.", K2 VCC (power) "Power supply for logic core and JTAG port."
part F pins: C8 GND (power) "Ground", D3 GND (Bank0) (power) "I/O Ground", G8 GND (Bank1) (power) "I/O Ground", H3 GND (power) "Ground"
part G pins: A8 NC "Not Connected.", B10 NC "Not Connected.", E1 NC "Not Connected.", E3 NC "Not Connected.", F8 NC "Not Connected.", F10 NC "Not Connected.", J1 NC "Not Connected.", K3 NC "Not Connected."
part A text: BANK 0
part B text: BANK 1

## LC4032ZC-35T48C
designator U?
ispMACH 4032 SuperFAST High Density PLD, 1.8 V, 32 User I/Os, 48-Pin TQFP, 3.5 ns, Commercial Grade; DatasheetVersion: ver22.3, Mar-2007; PackageVersion: ver02.6, Nov-2010; PackageReference: TQFP48(1mm); PackageDescription: 48-Pin Thin Quad Flat Pack 1.0 mm Thick (TQFP48); ComponentLink1Description: Manufacturer URL; ComponentLink1URL: http://www.latticesemi.com/; ComponentLink2Description: Datasheet; ComponentLink2URL: http://www.latticesemi.com/dynamic/view_document.cfm?document_id=3646
footprint TQFP48(1mm)_N (Thin QFP, 48-Leads, Body 7x7mm, Pitch 0.5mm, IPC Medium Density)
footprint TQFP48(1mm)_L (Thin QFP, 48-Leads, Body 7x7mm, Pitch 0.5mm, IPC High Density)
footprint TQFP48(1mm)_M (Thin QFP, 48-Leads, Body 7x7mm, Pitch 0.5mm, IPC Low Density)
part A pins: 2 A5, A^5 (io) "General purpose I/O.", 3 A6, A^6 (io) "General purpose I/O.", 4 A7, A^7 (io) "General purpose I/O.", 7 A8, A^8 (io) "General purpose I/O.", 8 A9, A^9 (io) "General purpose I/O.", 9 A10, A^10 (io) "General purpose I/O.", 10 A11, A^11 (io) "General purpose I/O.", 14 A12, A^12 (io) "General purpose I/O.", 15 A13, A^13 (io) "General purpose I/O.", 16 A14, A^14 (io) "General purpose I/O.", 17 A15, A^15 (io) "General purpose I/O.", 44 A0/GOE0, A^0 (io) "Either Global Output Enable Input or general I/O.", 45 A1, A^1 (io) "General purpose I/O.", 46 A2, A^2 (io) "General purpose I/O.", 47 A3, A^3 (io) "General purpose I/O.", 48 A4, A^4 (io) "General purpose I/O."
part B pins: 20 B0, B^0 (io) "General purpose I/O.", 21 B1, B^1 (io) "General purpose I/O.", 22 B2, B^2 (io) "General purpose I/O.", 23 B3, B^3 (io) "General purpose I/O.", 24 B4, B^4 (io) "General purpose I/O.", 26 B5, B^5 (io) "General purpose I/O.", 27 B6, B^6 (io) "General purpose I/O.", 28 B7, B^7 (io) "General purpose I/O.", 31 B8, B^8 (io) "General purpose I/O.", 32 B9, B^9 (io) "General purpose I/O.", 33 B10, B^10 (io) "General purpose I/O.", 34 B11, B^11 (io) "General purpose I/O.", 38 B12, B^12 (io) "General purpose I/O.", 39 B13, B^13 (io) "General purpose I/O.", 40 B14, B^14 (io) "General purpose I/O.", 41 B15/GOE1, B^15 (io) "Either Global Output Enable Input or general I/O."
part C pins: 18 CLK1/I (in) "Either CLK input or input.", 19 CLK2/I (in) "Either CLK input or input.", 42 CLK3/I (in) "Either CLK input or input.", 43 CLK0/I (in) "Either CLK input or input."
part D pins: 1 TDI (in) "Test Data Input. Loads data into device using 1149.1 state machine.", 11 TCK (in) "Test Clock Input for 1149.1 state machine.", 25 TMS (in) "Test Mode Select Input to control 1149.1 state machine.", 35 TDO (out) "Test Data Output. Shifts data out of device using 1149.1."
part E pins: 6 VCCO (Bank0) (power) "Power supply pin for I/O bank.", 12 VCC (power) "Power supply for logic core and JTAG port.", 30 VCCO (Bank1) (power) "Power supply pin for I/O bank.", 36 VCC (power) "Power supply for logic core and JTAG port."
part F pins: 5 GND (Bank0) (power) "I/O Ground", 13 GND (power) "Ground", 29 GND (Bank1) (power) "I/O Ground", 37 GND (power) "Ground"
part A text: BANK 0
part B text: BANK 1

## LC4032ZC-35TN48C
designator U?
ispMACH 4032 SuperFAST High Density PLD, 1.8 V, 32 User I/Os, 48-Pin TQFP, 3.5 ns, Commercial Grade, Pb-Free; DatasheetVersion: ver22.3, Mar-2007; PackageVersion: ver02.6, Nov-2010; PackageReference: TQFP48(1mm); PackageDescription: 48-Pin Thin Quad Flat Pack 1.0 mm Thick (TQFP48); ComponentLink1Description: Manufacturer URL; ComponentLink1URL: http://www.latticesemi.com/; ComponentLink2Description: Datasheet; ComponentLink2URL: http://www.latticesemi.com/dynamic/view_document.cfm?document_id=3646
footprint TQFP48(1mm)_N (Thin QFP, 48-Leads, Body 7x7mm, Pitch 0.5mm, IPC Medium Density)
footprint TQFP48(1mm)_L (Thin QFP, 48-Leads, Body 7x7mm, Pitch 0.5mm, IPC High Density)
footprint TQFP48(1mm)_M (Thin QFP, 48-Leads, Body 7x7mm, Pitch 0.5mm, IPC Low Density)
part A pins: 2 A5, A^5 (io) "General purpose I/O.", 3 A6, A^6 (io) "General purpose I/O.", 4 A7, A^7 (io) "General purpose I/O.", 7 A8, A^8 (io) "General purpose I/O.", 8 A9, A^9 (io) "General purpose I/O.", 9 A10, A^10 (io) "General purpose I/O.", 10 A11, A^11 (io) "General purpose I/O.", 14 A12, A^12 (io) "General purpose I/O.", 15 A13, A^13 (io) "General purpose I/O.", 16 A14, A^14 (io) "General purpose I/O.", 17 A15, A^15 (io) "General purpose I/O.", 44 A0/GOE0, A^0 (io) "Either Global Output Enable Input or general I/O.", 45 A1, A^1 (io) "General purpose I/O.", 46 A2, A^2 (io) "General purpose I/O.", 47 A3, A^3 (io) "General purpose I/O.", 48 A4, A^4 (io) "General purpose I/O."
part B pins: 20 B0, B^0 (io) "General purpose I/O.", 21 B1, B^1 (io) "General purpose I/O.", 22 B2, B^2 (io) "General purpose I/O.", 23 B3, B^3 (io) "General purpose I/O.", 24 B4, B^4 (io) "General purpose I/O.", 26 B5, B^5 (io) "General purpose I/O.", 27 B6, B^6 (io) "General purpose I/O.", 28 B7, B^7 (io) "General purpose I/O.", 31 B8, B^8 (io) "General purpose I/O.", 32 B9, B^9 (io) "General purpose I/O.", 33 B10, B^10 (io) "General purpose I/O.", 34 B11, B^11 (io) "General purpose I/O.", 38 B12, B^12 (io) "General purpose I/O.", 39 B13, B^13 (io) "General purpose I/O.", 40 B14, B^14 (io) "General purpose I/O.", 41 B15/GOE1, B^15 (io) "Either Global Output Enable Input or general I/O."
part C pins: 18 CLK1/I (in) "Either CLK input or input.", 19 CLK2/I (in) "Either CLK input or input.", 42 CLK3/I (in) "Either CLK input or input.", 43 CLK0/I (in) "Either CLK input or input."
part D pins: 1 TDI (in) "Test Data Input. Loads data into device using 1149.1 state machine.", 11 TCK (in) "Test Clock Input for 1149.1 state machine.", 25 TMS (in) "Test Mode Select Input to control 1149.1 state machine.", 35 TDO (out) "Test Data Output. Shifts data out of device using 1149.1."
part E pins: 6 VCCO (Bank0) (power) "Power supply pin for I/O bank.", 12 VCC (power) "Power supply for logic core and JTAG port.", 30 VCCO (Bank1) (power) "Power supply pin for I/O bank.", 36 VCC (power) "Power supply for logic core and JTAG port."
part F pins: 5 GND (Bank0) (power) "I/O Ground", 13 GND (power) "Ground", 29 GND (Bank1) (power) "I/O Ground", 37 GND (power) "Ground"
part A text: BANK 0
part B text: BANK 1

## LC4032ZC-75M56C
designator U?
ispMACH 4032 SuperFAST High Density PLD, 1.8 V, 32 User I/Os, 56-Ball caBGA, 7.5 ns, Commercial Grade; Note: For device migration considerations, NC pins K3, J1, F10, F8, E3, E1, B10, A8 are input signal pins in ispMACH 4064Z devices.; DatasheetVersion: ver22.3, Mar-2007; PackageVersion: ver01.2 Feb-2007; PackageReference: csBGA56; PackageDescription: 56-Ball Chip Scale Ball Grid Array (csBGA56); ComponentLink1Description: Manufacturer URL; ComponentLink1URL: http://www.latticesemi.com/; ComponentLink2Description: Datasheet; ComponentLink2URL: http://www.latticesemi.com/dynamic/view_document.cfm?document_id=3646
footprint csBGA56 (BGA, 56-Leads, Body 6x6mm, Pitch 0.5mm)
part A pins: A1 A4, A^4 (io) "General purpose I/O.", A2 A3, A^3 (io) "General purpose I/O.", A3 A2, A^2 (io) "General purpose I/O.", A4 A1, A^1 (io) "General purpose I/O.", C1 A6, A^6 (io) "General purpose I/O.", C3 A5, A^5 (io) "General purpose I/O.", C4 A0/GOE0, A^0 (io) "Either Global Output Enable Input or general I/O.", D1 A7, A^7 (io) "General purpose I/O.", F1 A8, A^8 (io) "General purpose I/O.", G1 A10, A^10 (io) "General purpose I/O.", G3 A9, A^9 (io) "General purpose I/O.", H1 A11, A^11 (io) "General purpose I/O.", H4 A13, A^13 (io) "General purpose I/O.", H5 A14, A^14 (io) "General purpose I/O.", K4 A12, A^12 (io) "General purpose I/O.", K5 A15, A^15 (io) "General purpose I/O."
part B pins: A6 B15/GOE1, B^15 (io) "Either Global Output Enable Input or general I/O.", A7 B12, B^12 (io) "General purpose I/O.", C6 B14, B^14 (io) "General purpose I/O.", C7 B13, B^13 (io) "General purpose I/O.", C10 B11, B^11 (io) "General purpose I/O.", D8 B9, B^9 (io) "General purpose I/O.", D10 B10, B^10 (io) "General purpose I/O.", E10 B8, B^8 (io) "General purpose I/O.", G10 B7, B^7 (io) "General purpose I/O.", H7 B0, B^0 (io) "General purpose I/O.", H8 B5, B^5 (io) "General purpose I/O.", H10 B6, B^6 (io) "General purpose I/O.", K7 B1, B^1 (io) "General purpose I/O.", K8 B2, B^2 (io) "General purpose I/O.", K9 B3, B^3 (io) "General purpose I/O.", K10 B4, B^4 (io) "General purpose I/O."
part C pins: A5 CLK0/I (in) "Either CLK input or input.", C5 CLK3/I (in) "Either CLK input or input.", H6 CLK1/I (in) "Either CLK input or input.", K6 CLK2/I (in) "Either CLK input or input."
part D pins: A10 TDO (out) "Test Data Output. Shifts data out of device using 1149.1.", B1 TDI (in) "Test Data Input. Loads data into device using 1149.1 state machine.", J10 TMS (in) "Test Mode Select Input to control 1149.1 state machine.", K1 TCK (in) "Test Clock Input for 1149.1 state machine."
part E pins: A9 VCC (power) "Power supply for logic core and JTAG port.", E8 VCCO (Bank1) (power) "Power supply pin for I/O bank.", F3 VCCO (Bank0) (power) "Power supply pin for I/O bank.", K2 VCC (power) "Power supply for logic core and JTAG port."
part F pins: C8 GND (power) "Ground", D3 GND (Bank0) (power) "I/O Ground", G8 GND (Bank1) (power) "I/O Ground", H3 GND (power) "Ground"
part G pins: A8 NC "Not Connected.", B10 NC "Not Connected.", E1 NC "Not Connected.", E3 NC "Not Connected.", F8 NC "Not Connected.", F10 NC "Not Connected.", J1 NC "Not Connected.", K3 NC "Not Connected."
part A text: BANK 0
part B text: BANK 1

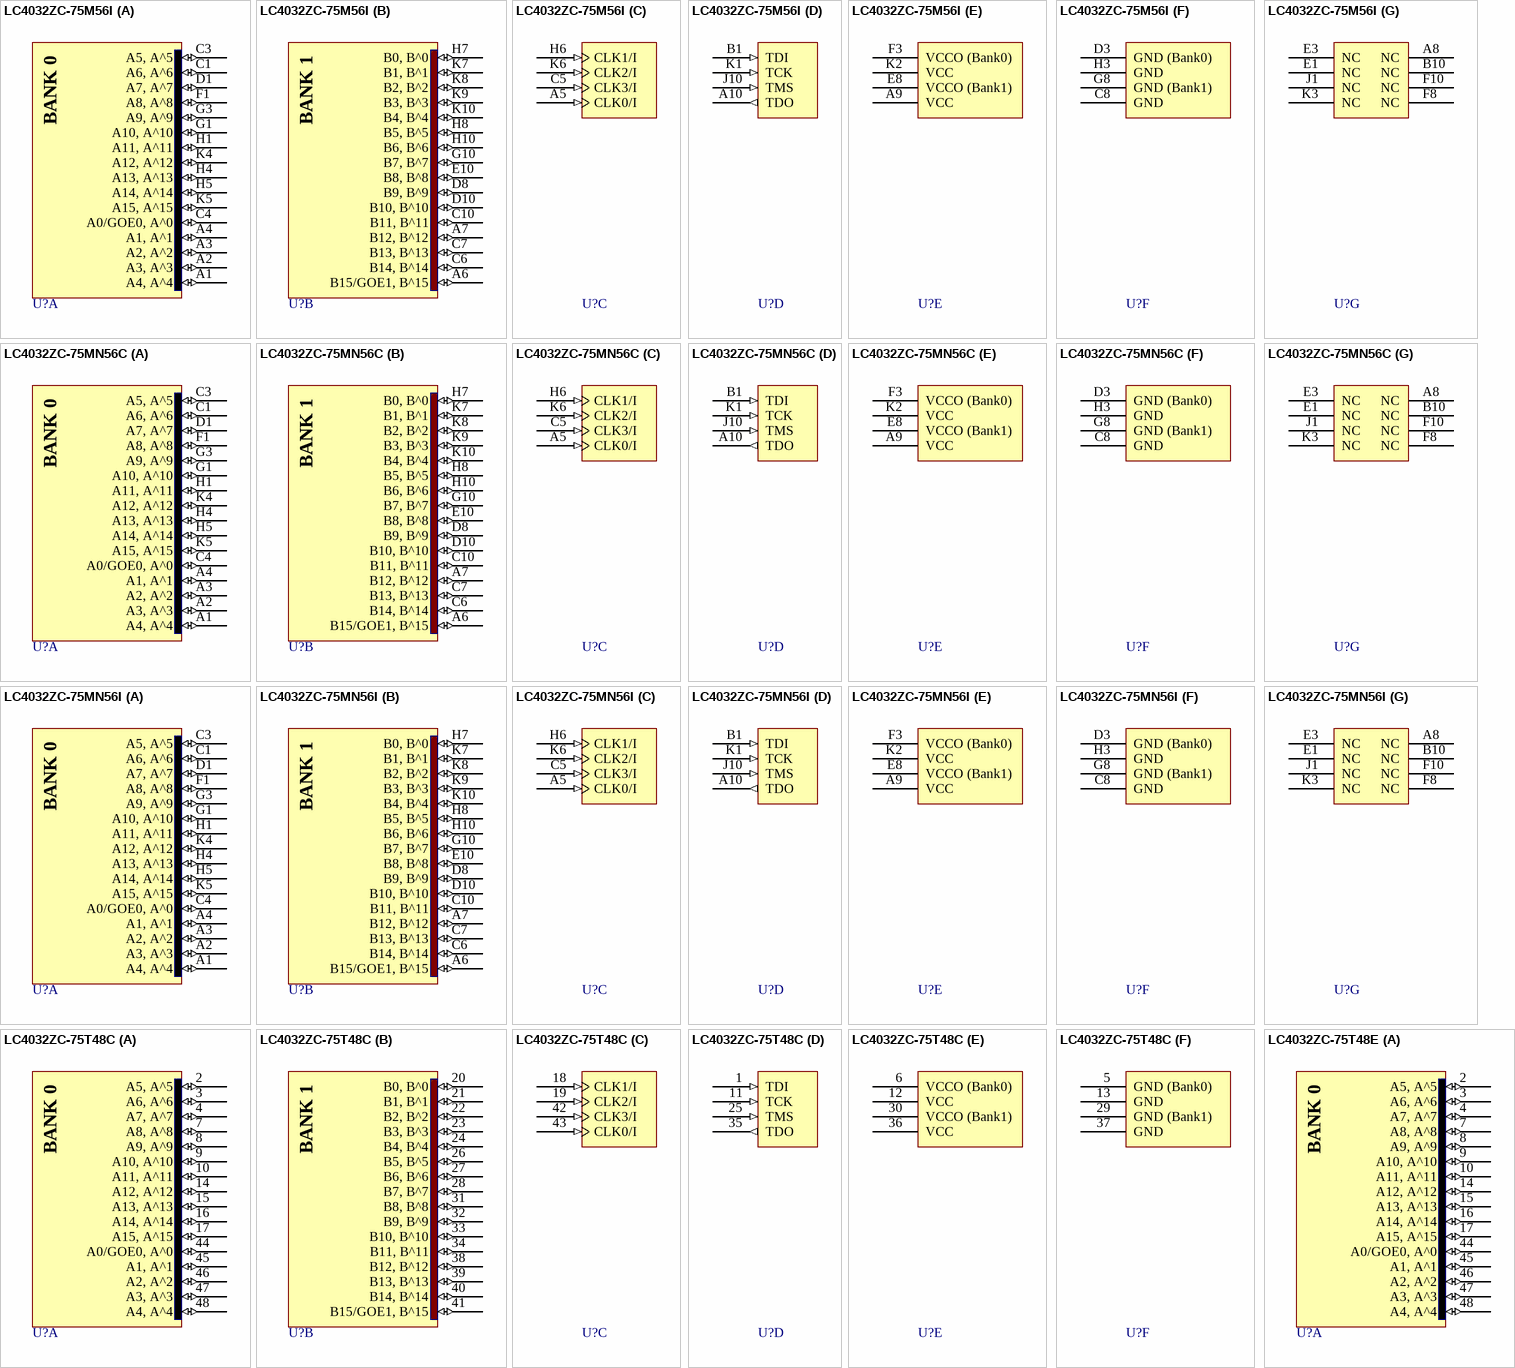
[diagram p3: symbols LC4032ZC-75M56I to LC4032ZC-75T48E]

## LC4032ZC-75M56I
designator U?
ispMACH 4032 SuperFAST High Density PLD, 1.8 V, 32 User I/Os, 56-Ball caBGA, 7.5 ns, Industrial Grade; Note: For device migration considerations, NC pins K3, J1, F10, F8, E3, E1, B10, A8 are input signal pins in ispMACH 4064Z devices.; DatasheetVersion: ver22.3, Mar-2007; PackageVersion: ver01.2 Feb-2007; PackageReference: csBGA56; PackageDescription: 56-Ball Chip Scale Ball Grid Array (csBGA56); ComponentLink1Description: Manufacturer URL; ComponentLink1URL: http://www.latticesemi.com/; ComponentLink2Description: Datasheet; ComponentLink2URL: http://www.latticesemi.com/dynamic/view_document.cfm?document_id=3646
footprint csBGA56 (BGA, 56-Leads, Body 6x6mm, Pitch 0.5mm)
part A pins: A1 A4, A^4 (io) "General purpose I/O.", A2 A3, A^3 (io) "General purpose I/O.", A3 A2, A^2 (io) "General purpose I/O.", A4 A1, A^1 (io) "General purpose I/O.", C1 A6, A^6 (io) "General purpose I/O.", C3 A5, A^5 (io) "General purpose I/O.", C4 A0/GOE0, A^0 (io) "Either Global Output Enable Input or general I/O.", D1 A7, A^7 (io) "General purpose I/O.", F1 A8, A^8 (io) "General purpose I/O.", G1 A10, A^10 (io) "General purpose I/O.", G3 A9, A^9 (io) "General purpose I/O.", H1 A11, A^11 (io) "General purpose I/O.", H4 A13, A^13 (io) "General purpose I/O.", H5 A14, A^14 (io) "General purpose I/O.", K4 A12, A^12 (io) "General purpose I/O.", K5 A15, A^15 (io) "General purpose I/O."
part B pins: A6 B15/GOE1, B^15 (io) "Either Global Output Enable Input or general I/O.", A7 B12, B^12 (io) "General purpose I/O.", C6 B14, B^14 (io) "General purpose I/O.", C7 B13, B^13 (io) "General purpose I/O.", C10 B11, B^11 (io) "General purpose I/O.", D8 B9, B^9 (io) "General purpose I/O.", D10 B10, B^10 (io) "General purpose I/O.", E10 B8, B^8 (io) "General purpose I/O.", G10 B7, B^7 (io) "General purpose I/O.", H7 B0, B^0 (io) "General purpose I/O.", H8 B5, B^5 (io) "General purpose I/O.", H10 B6, B^6 (io) "General purpose I/O.", K7 B1, B^1 (io) "General purpose I/O.", K8 B2, B^2 (io) "General purpose I/O.", K9 B3, B^3 (io) "General purpose I/O.", K10 B4, B^4 (io) "General purpose I/O."
part C pins: A5 CLK0/I (in) "Either CLK input or input.", C5 CLK3/I (in) "Either CLK input or input.", H6 CLK1/I (in) "Either CLK input or input.", K6 CLK2/I (in) "Either CLK input or input."
part D pins: A10 TDO (out) "Test Data Output. Shifts data out of device using 1149.1.", B1 TDI (in) "Test Data Input. Loads data into device using 1149.1 state machine.", J10 TMS (in) "Test Mode Select Input to control 1149.1 state machine.", K1 TCK (in) "Test Clock Input for 1149.1 state machine."
part E pins: A9 VCC (power) "Power supply for logic core and JTAG port.", E8 VCCO (Bank1) (power) "Power supply pin for I/O bank.", F3 VCCO (Bank0) (power) "Power supply pin for I/O bank.", K2 VCC (power) "Power supply for logic core and JTAG port."
part F pins: C8 GND (power) "Ground", D3 GND (Bank0) (power) "I/O Ground", G8 GND (Bank1) (power) "I/O Ground", H3 GND (power) "Ground"
part G pins: A8 NC "Not Connected.", B10 NC "Not Connected.", E1 NC "Not Connected.", E3 NC "Not Connected.", F8 NC "Not Connected.", F10 NC "Not Connected.", J1 NC "Not Connected.", K3 NC "Not Connected."
part A text: BANK 0
part B text: BANK 1

## LC4032ZC-75MN56C
designator U?
ispMACH 4032 SuperFAST High Density PLD, 1.8 V, 32 User I/Os, 56-Ball caBGA, 7.5 ns, Commercial Grade, Pb-Free; Note: For device migration considerations, NC pins K3, J1, F10, F8, E3, E1, B10, A8 are input signal pins in ispMACH 4064Z devices.; DatasheetVersion: ver22.3, Mar-2007; PackageVersion: ver01.2 Feb-2007; PackageReference: csBGA56; PackageDescription: 56-Ball Chip Scale Ball Grid Array (csBGA56); ComponentLink1Description: Manufacturer URL; ComponentLink1URL: http://www.latticesemi.com/; ComponentLink2Description: Datasheet; ComponentLink2URL: http://www.latticesemi.com/dynamic/view_document.cfm?document_id=3646
footprint csBGA56 (BGA, 56-Leads, Body 6x6mm, Pitch 0.5mm)
part A pins: A1 A4, A^4 (io) "General purpose I/O.", A2 A3, A^3 (io) "General purpose I/O.", A3 A2, A^2 (io) "General purpose I/O.", A4 A1, A^1 (io) "General purpose I/O.", C1 A6, A^6 (io) "General purpose I/O.", C3 A5, A^5 (io) "General purpose I/O.", C4 A0/GOE0, A^0 (io) "Either Global Output Enable Input or general I/O.", D1 A7, A^7 (io) "General purpose I/O.", F1 A8, A^8 (io) "General purpose I/O.", G1 A10, A^10 (io) "General purpose I/O.", G3 A9, A^9 (io) "General purpose I/O.", H1 A11, A^11 (io) "General purpose I/O.", H4 A13, A^13 (io) "General purpose I/O.", H5 A14, A^14 (io) "General purpose I/O.", K4 A12, A^12 (io) "General purpose I/O.", K5 A15, A^15 (io) "General purpose I/O."
part B pins: A6 B15/GOE1, B^15 (io) "Either Global Output Enable Input or general I/O.", A7 B12, B^12 (io) "General purpose I/O.", C6 B14, B^14 (io) "General purpose I/O.", C7 B13, B^13 (io) "General purpose I/O.", C10 B11, B^11 (io) "General purpose I/O.", D8 B9, B^9 (io) "General purpose I/O.", D10 B10, B^10 (io) "General purpose I/O.", E10 B8, B^8 (io) "General purpose I/O.", G10 B7, B^7 (io) "General purpose I/O.", H7 B0, B^0 (io) "General purpose I/O.", H8 B5, B^5 (io) "General purpose I/O.", H10 B6, B^6 (io) "General purpose I/O.", K7 B1, B^1 (io) "General purpose I/O.", K8 B2, B^2 (io) "General purpose I/O.", K9 B3, B^3 (io) "General purpose I/O.", K10 B4, B^4 (io) "General purpose I/O."
part C pins: A5 CLK0/I (in) "Either CLK input or input.", C5 CLK3/I (in) "Either CLK input or input.", H6 CLK1/I (in) "Either CLK input or input.", K6 CLK2/I (in) "Either CLK input or input."
part D pins: A10 TDO (out) "Test Data Output. Shifts data out of device using 1149.1.", B1 TDI (in) "Test Data Input. Loads data into device using 1149.1 state machine.", J10 TMS (in) "Test Mode Select Input to control 1149.1 state machine.", K1 TCK (in) "Test Clock Input for 1149.1 state machine."
part E pins: A9 VCC (power) "Power supply for logic core and JTAG port.", E8 VCCO (Bank1) (power) "Power supply pin for I/O bank.", F3 VCCO (Bank0) (power) "Power supply pin for I/O bank.", K2 VCC (power) "Power supply for logic core and JTAG port."
part F pins: C8 GND (power) "Ground", D3 GND (Bank0) (power) "I/O Ground", G8 GND (Bank1) (power) "I/O Ground", H3 GND (power) "Ground"
part G pins: A8 NC "Not Connected.", B10 NC "Not Connected.", E1 NC "Not Connected.", E3 NC "Not Connected.", F8 NC "Not Connected.", F10 NC "Not Connected.", J1 NC "Not Connected.", K3 NC "Not Connected."
part A text: BANK 0
part B text: BANK 1